# EAGLE library part KLEMME-2_50-BRUECKE (library e-klemmen)
Klemme 50-pol. mit Brückenhinweis
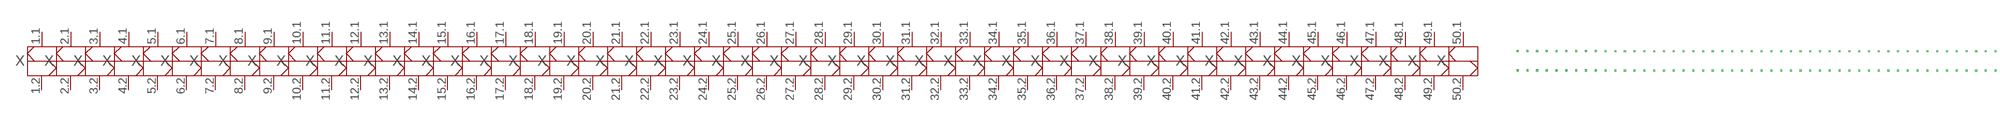
[diagram p94: symbol with the pads of KLEMME-2_50-BRUECKE; footprint KLEMME-2_50-BRUECKE]

Designator prefix X; gates 1=KLEMME-2_1-BRUECKE 2=KLEMME-2_2-BRUECKE 3=KLEMME-2_3-BRUECKE 4=KLEMME-2_4-BRUECKE 5=KLEMME-2_5-BRUECKE 6=KLEMME-2_6-BRUECKE 7=KLEMME-2_7-BRUECKE 8=KLEMME-2_8-BRUECKE 9=KLEMME-2_9-BRUECKE 10=KLEMME-2_10-BRUECKE 11=KLEMME-2_11-BRUECKE 12=KLEMME-2_12-BRUECKE 13=KLEMME-2_13-BRUECKE 14=KLEMME-2_14-BRUECKE 15=KLEMME-2_15-BRUECKE 16=KLEMME-2_16-BRUECKE 17=KLEMME-2_17-BRUECKE 18=KLEMME-2_18-BRUECKE 19=KLEMME-2_19-BRUECKE 20=KLEMME-2_20-BRUECKE 21=KLEMME-2_21-BRUECKE 22=KLEMME-2_22-BRUECKE 23=KLEMME-2_23-BRUECKE 24=KLEMME-2_24-BRUECKE 25=KLEMME-2_25-BRUECKE 26=KLEMME-2_26-BRUECKE 27=KLEMME-2_27-BRUECKE 28=KLEMME-2_28-BRUECKE 29=KLEMME-2_29-BRUECKE 30=KLEMME-2_30-BRUECKE 31=KLEMME-2_31-BRUECKE 32=KLEMME-2_32-BRUECKE 33=KLEMME-2_33-BRUECKE 34=KLEMME-2_34-BRUECKE 35=KLEMME-2_35-BRUECKE 36=KLEMME-2_36-BRUECKE 37=KLEMME-2_37-BRUECKE 38=KLEMME-2_38-BRUECKE 39=KLEMME-2_39-BRUECKE 40=KLEMME-2_40-BRUECKE 41=KLEMME-2_41-BRUECKE 42=KLEMME-2_42-BRUECKE 43=KLEMME-2_43-BRUECKE 44=KLEMME-2_44-BRUECKE 45=KLEMME-2_45-BRUECKE 46=KLEMME-2_46-BRUECKE 47=KLEMME-2_47-BRUECKE 48=KLEMME-2_48-BRUECKE 49=KLEMME-2_49-BRUECKE 50=KLEMME-2_50-BRUECKE

## KLEMME-2_50-BRUECKE  [KLEMME-2_50-BRUECKE]
1.1  1:1  pas
1.2  1:2  pas
2.1  2:1  pas
2.2  2:2  pas
3.1  3:1  pas
3.2  3:2  pas
4.1  4:1  pas
4.2  4:2  pas
5.1  5:1  pas
5.2  5:2  pas
6.1  6:1  pas
6.2  6:2  pas
7.1  7:1  pas
7.2  7:2  pas
8.1  8:1  pas
8.2  8:2  pas
9.1  9:1  pas
9.2  9:2  pas
10.1  10:1  pas
10.2  10:2  pas
11.1  11:1  pas
11.2  11:2  pas
12.1  12:1  pas
12.2  12:2  pas
13.1  13:1  pas
13.2  13:2  pas
14.1  14:1  pas
14.2  14:2  pas
15.1  15:1  pas
15.2  15:2  pas
16.1  16:1  pas
16.2  16:2  pas
17.1  17:1  pas
17.2  17:2  pas
18.1  18:1  pas
18.2  18:2  pas
19.1  19:1  pas
19.2  19:2  pas
20.1  20:1  pas
20.2  20:2  pas
21.1  21:1  pas
21.2  21:2  pas
22.1  22:1  pas
22.2  22:2  pas
23.1  23:1  pas
23.2  23:2  pas
24.1  24:1  pas
24.2  24:2  pas
25.1  25:1  pas
25.2  25:2  pas
26.1  26:1  pas
26.2  26:2  pas
27.1  27:1  pas
27.2  27:2  pas
28.1  28:1  pas
28.2  28:2  pas
29.1  29:1  pas
29.2  29:2  pas
30.1  30:1  pas
30.2  30:2  pas
31.1  31:1  pas
31.2  31:2  pas
32.1  32:1  pas
32.2  32:2  pas
33.1  33:1  pas
33.2  33:2  pas
34.1  34:1  pas
34.2  34:2  pas
35.1  35:1  pas
35.2  35:2  pas
36.1  36:1  pas
36.2  36:2  pas
37.1  37:1  pas
37.2  37:2  pas
38.1  38:1  pas
38.2  38:2  pas
39.1  39:1  pas
39.2  39:2  pas
40.1  40:1  pas
40.2  40:2  pas
41.1  41:1  pas
41.2  41:2  pas
42.1  42:1  pas
42.2  42:2  pas
43.1  43:1  pas
43.2  43:2  pas
44.1  44:1  pas
44.2  44:2  pas
45.1  45:1  pas
45.2  45:2  pas
46.1  46:1  pas
46.2  46:2  pas
47.1  47:1  pas
47.2  47:2  pas
48.1  48:1  pas
48.2  48:2  pas
49.1  49:1  pas
49.2  49:2  pas
50.1  50:1  pas
50.2  50:2  pas

## Footprint KLEMME-2_50-BRUECKE (pad centres in mm)
Dummy
drill 0.5 pad 1 square: 1.1 0,-2.54; 1.2 0,-12.7; 2.1 5.08,-2.54; 2.2 5.08,-12.7; 3.1 10.16,-2.54; 3.2 10.16,-12.7; 4.1 15.24,-2.54; 4.2 15.24,-12.7; 5.1 20.32,-2.54; 5.2 20.32,-12.7; 6.1 25.4,-2.54; 6.2 25.4,-12.7; 7.1 30.48,-2.54; 7.2 30.48,-12.7; 8.1 35.56,-2.54; 8.2 35.56,-12.7; 9.1 40.64,-2.54; 9.2 40.64,-12.7; 10.1 45.72,-2.54; 10.2 45.72,-12.7; 11.1 50.8,-2.54; 11.2 50.8,-12.7; 12.1 55.88,-2.54; 12.2 55.88,-12.7; 13.1 60.96,-2.54; 13.2 60.96,-12.7; 14.1 66.04,-2.54; 14.2 66.04,-12.7; 15.1 71.12,-2.54; 15.2 71.12,-12.7; 16.1 76.2,-2.54; 16.2 76.2,-12.7; 17.1 81.28,-2.54; 17.2 81.28,-12.7; 18.1 86.36,-2.54; 18.2 86.36,-12.7; 19.1 91.44,-2.54; 19.2 91.44,-12.7; 20.1 96.52,-2.54; 20.2 96.52,-12.7; 21.1 101.6,-2.54; 21.2 101.6,-12.7; 22.1 106.68,-2.54; 22.2 106.68,-12.7; 23.1 111.76,-2.54; 23.2 111.76,-12.7; 24.1 116.84,-2.54; 24.2 116.84,-12.7; 25.1 121.92,-2.54; 25.2 121.92,-12.7; 26.1 127,-2.54; 26.2 127,-12.7; 27.1 132.08,-2.54; 27.2 132.08,-12.7; 28.1 137.16,-2.54; 28.2 137.16,-12.7; 29.1 142.24,-2.54; 29.2 142.24,-12.7; 30.1 147.32,-2.54; 30.2 147.32,-12.7; 31.1 152.4,-2.54; 31.2 152.4,-12.7; 32.1 157.48,-2.54; 32.2 157.48,-12.7; 33.1 162.56,-2.54; 33.2 162.56,-12.7; 34.1 167.64,-2.54; 34.2 167.64,-12.7; 35.1 172.72,-2.54; 35.2 172.72,-12.7; 36.1 177.8,-2.54; 36.2 177.8,-12.7; 37.1 182.88,-2.54; 37.2 182.88,-12.7; 38.1 187.96,-2.54; 38.2 187.96,-12.7; 39.1 193.04,-2.54; 39.2 193.04,-12.7; 40.1 198.12,-2.54; 40.2 198.12,-12.7; 41.1 203.2,-2.54; 41.2 203.2,-12.7; 42.1 208.28,-2.54; 42.2 208.28,-12.7; 43.1 213.36,-2.54; 43.2 213.36,-12.7; 44.1 218.44,-2.54; 44.2 218.44,-12.7; 45.1 223.52,-2.54; 45.2 223.52,-12.7; 46.1 228.6,-2.54; 46.2 228.6,-12.7; 47.1 233.68,-2.54; 47.2 233.68,-12.7; 48.1 238.76,-2.54; 48.2 238.76,-12.7; 49.1 243.84,-2.54; 49.2 243.84,-12.7; 50.1 248.92,-2.54; 50.2 248.92,-12.7